# Altium schematic symbol library VESC_MotorController.SCHLIB: 140 symbols (part 1 of 2)
Pins are listed as number, name and electrical type; pins without a type are passive.

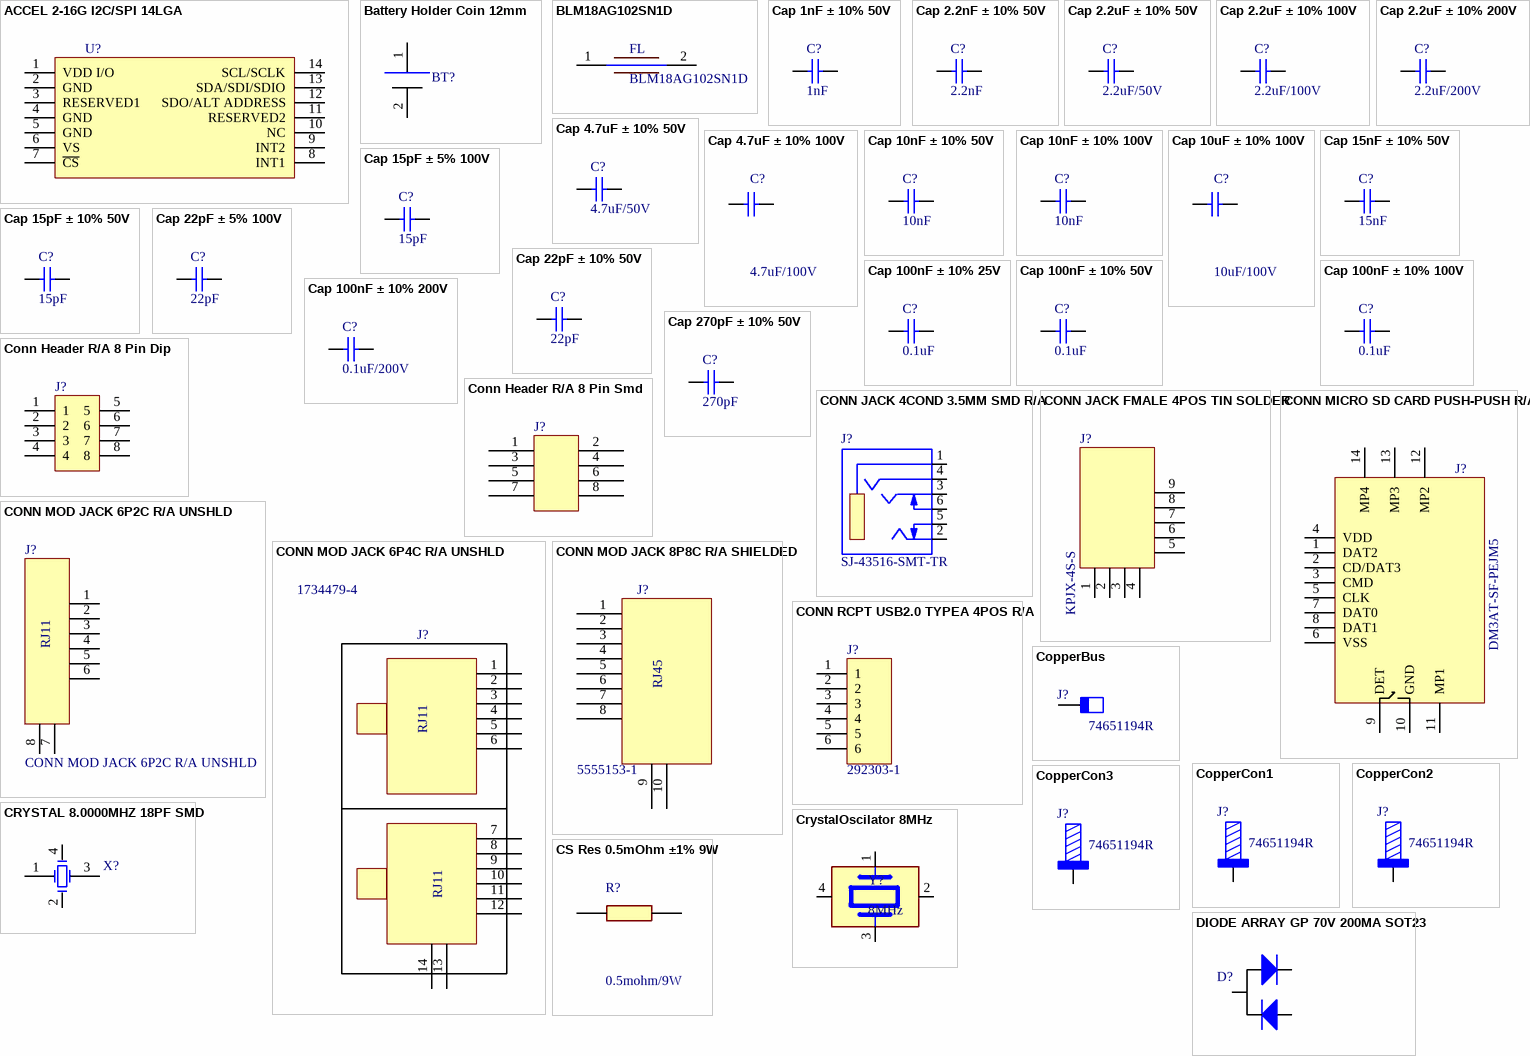
[diagram p0: symbols ACCEL 2-16G I2C/SPI 14LGA to DIODE ARRAY GP 70V 200MA SOT23]

## ACCEL 2-16G I2C/SPI 14LGA
designator U?, comment ADXL343BCCZ-RL7  (value not drawn)
Accelerometer X, Y, Z Axis ±2g, 4g, 8g, 16g 0.05Hz ~ 1.6kHz 14-LGA (3x5); Manufacturer: Analog Devices; Supplier: Mouser; Supplier part Number: 584-ADXL343BCCZ-R7; Value: ADXL343BCCZ-RL7; Unit Price: 4.4; Manufacturer part Number: ADXL343BCCZ-RL7
footprint LGA14R80P8X6_500X300X100N (ADXL343BCCZ-RL7,ACCEL 2-16G I2C/SPI 14LGA)
pins: 1 VDD I/O, 2 GND, 3 RESERVED1, 4 GND, 5 GND, 6 VS, 7 ~{CS}, 8 INT1, 9 INT2, 10 NC, 11 RESERVED2, 12 SDO/ALT ADDRESS, 13 SDA/SDI/SDIO, 14 SCL/SCLK

## Battery Holder Coin 12mm
designator BT?, comment S8411-45R  (value not drawn)
Coin Cell Battery Holders EZ BDWR, SMT COIN CELL HOLDER CR1220; Manufacturer: Harwin; Supplier: Mouser; Supplier part Number: 855-S8411-45R; Price: 1.66; Value: S8411-45R; Manufacturer part Number: S8411-45R
footprint HLDR_S8411-45R (S8411-45R,BATTERY HOLDER COIN 12MM SMD)
pins: 1 +, 2 -

## BLM18AG102SN1D
designator FL
Ferrite Beads 1000 OHM 25% Alternate Sizing Guide Below; Manufacturer: Murata; Manufacturer Part Number: BLM18AG102SN1D; Price: 0.1; Supplier Part Number: 81-BLM11A102S; Value: BLM18AG102SN1D; Supplier: Mouser
footprint BLM18EG121SH1D
pins: 1, 2

## Cap 1nF ± 10% 50V
designator C?, comment 1nF
Multilayer Ceramic Capacitors MLCC - SMD/SMT 50V 1000pF X7R 0603 10%; Manufacturer: Yageo; Manufacturer Part Number: CC0603KRX7R9BB102; Value: 1nF; Supplier: mouser; Supplier Part Number: 603-CC0603KRX7R9BB102; Price: 0.1
footprint C0603 (CAPACITOR SMD 0603)
pins: 1, 2

## Cap 2.2nF ± 10% 50V
designator C?, comment 2.2nF
Multilayer Ceramic Capacitors MLCC - SMD/SMT 50V 2200pF X7R 0603 10%; Manufacturer: Yageo; Manufacturer Part Number: CC0603KRX7R9BB222; Value: 2.2nF; Supplier: mouser; Supplier Part Number: 603-CC0603KRX7R9BB222; Price: 0.1
footprint C0603 (CAPACITOR SMD 0603)
pins: 1, 2

## Cap 2.2uF ± 10% 50V
designator C?, comment 2.2uF/50V
Multilayer Ceramic Capacitors MLCC - SMD/SMT 50 V 2.2uF X7R 0805 10%; Manufacturer: Yageo; Manufacturer Part Number: CC0805KKX7R9BB225; Value: 2.2uF/50V; Supplier: mouser; Supplier Part Number: 603-CC805KKX7R9BB225; Price: 0.36
footprint C0805
pins: 1, 2

## Cap 2.2uF ± 10% 100V
designator C?, comment 2.2uF/100V
Multilayer Ceramic Capacitors MLCC - SMD/SMT 100V 2.2uF X7R 1210 10%; Manufacturer: Yageo; Manufacturer Part Number: CC1210KKX7R0BB225; Value: 2.2uF/100V; Supplier: mouser; Supplier Part Number: 603-CC121KKX7R0BB225; Price: 1.33
footprint C1210
pins: 1, 2

## Cap 2.2uF ± 10% 200V
designator C?, comment 2.2uF/200V
Multilayer Ceramic Capacitors MLCC - SMD/SMT 2.2UF 200V 10% 2220; Manufacturer: Knowles Syfer; Manufacturer Part Number: 2220Y2000225KXTWS2; Value: 2.2uF/200V; Supplier: mouser; Supplier Part Number: 843-2220Y20225KXTWS2; Price: 14
footprint C2220
pins: 1, 2

## Cap 4.7uF ± 10% 50V
designator C?, comment 4.7uF/50V
Multilayer Ceramic Capacitors MLCC - SMD/SMT 50 V 4.7uF X7R 1206 10%; Manufacturer: Yageo; Manufacturer Part Number: CC1206KKX7R9BB475; Value: 4.7uF/50V; Supplier: mouser; Supplier Part Number: 603-CC206KKX7R9BB475; Price: 0.46
footprint C1206 (CAPACITOR SMD 1206)
pins: 1, 2

## Cap 4.7uF ± 10% 100V
designator C?, comment 4.7uF/100V
Multilayer Ceramic Capacitors MLCC - SMD/SMT 4.7 uF 100 VDC 10% 1210 X7S; Manufacturer: Murata Electronics; Manufacturer Part Number: GRM32DC72A475KE01L; Supplier Part Number: 81-GRM32DC72A475KE1L; Supplier: Mouser; Price: 0.978; Value: 4.7uF/100V
footprint C1210
pins: 1, 2

## Cap 10nF ± 10% 50V
designator C?, comment 10nF
Multilayer Ceramic Capacitors MLCC - SMD/SMT 50V 0.01uF X7R 0603 10%; Manufacturer: Yageo; Manufacturer Part Number: CC0603KRX7R9BB103; Value: 10nF; Supplier: mouser; Supplier Part Number: 603-CC0603KRX7R9BB103; Price: 0.1
footprint C0603 (CAPACITOR SMD 0603)
pins: 1, 2

## Cap 10nF ± 10% 100V
designator C?, comment 10nF
Multilayer Ceramic Capacitors MLCC - SMD/SMT 100V 0.01uF X7R 10% 0805; Manufacturer: Yageo; Manufacturer Part Number: CC0805KRX7R0BB103; Value: 10nF; Supplier: mouser; Supplier Part Number: 603-CC0805KRX7R0BB103; Price: 0.1
footprint C0805
pins: 1, 2

## Cap 10uF ± 10% 100V
designator C?, comment 10uF/100V
Multilayer Ceramic Capacitors MLCC - SMD/SMT 10 uF 100 VDC 10% 1210 X7S; Manufacturer: Murata Electronics; Manufacturer Part Number: GRM32EC72A106KE05L; Supplier Part Number: 81-GRM32EC72A106KE05; Supplier: Mouser; Price: 0.998; Value: 10uF/100V
footprint C1210
pins: 1, 2

## Cap 15nF ± 10% 50V
designator C?, comment 15nF
Multilayer Ceramic Capacitors MLCC - SMD/SMT 50V 0.015uF X7R 0603 10%; Manufacturer: Yageo; Manufacturer Part Number: CC0603KRX7R9BB153; Value: 15nF; Supplier: mouser; Supplier Part Number: 603-CC0603KRX7R9BB153; Price: 0.1
footprint C0603 (CAPACITOR SMD 0603)
pins: 1, 2

## Cap 15pF ± 5% 100V
designator C?, comment 15pF
Multilayer Ceramic Capacitors MLCC - SMD/SMT 100V 15pF C0G 0805 5%; Manufacturer: Yageo; Manufacturer Part Number: CC0805JRNPO0BN150; Value: 15pF; Supplier: mouser; Supplier Part Number: 603-CC0805JRNPO0BN150; Price: 0.1
footprint C0805
pins: 1, 2

## Cap 15pF ± 10% 50V
designator C?, comment 15pF
Multilayer Ceramic Capacitors MLCC - SMD/SMT 50 V 15 pF C0G 0603 10%; Manufacturer: Yageo; Manufacturer Part Number: CC0603KRNPO9BN150; Value: 15pF; Supplier: mouser; Supplier Part Number: 603-CC0603KRNPO9BN150; Price: 0.1
footprint C0603 (CAPACITOR SMD 0603)
pins: 1, 2

## Cap 22pF ± 5% 100V
designator C?, comment 22pF
Multilayer Ceramic Capacitors MLCC - SMD/SMT 100V 22pF C0G 0805 5%; Manufacturer: Yageo; Manufacturer Part Number: CC0805JRNPO0BN220; Value: 22pF; Supplier: mouser; Supplier Part Number: 603-CC0805JRNPO0BN220; Price: 0.1
footprint C0805
pins: 1, 2

## Cap 22pF ± 10% 50V
designator C?, comment 22pF
Multilayer Ceramic Capacitors MLCC - SMD/SMT 50 V 22 pF C0G 0603 10%; Manufacturer: Yageo; Manufacturer Part Number: CC0603KRNPO9BN220; Value: 22pF; Supplier: mouser; Supplier Part Number: 603-CC603KRNPO9BN220; Price: 0.1
footprint C0603 (CAPACITOR SMD 0603)
pins: 1, 2

## Cap 100nF ± 10% 25V
designator C?, comment 0.1uF
Multilayer Ceramic Capacitors MLCC - SMD/SMT 25 V 0.1uF X7R 0402 10%; Manufacturer: Yageo; Manufacturer Part Number: CC0402KRX7R8BB104; Value: 0.1uF; Supplier: mouser; Supplier Part Number: 603-CC402KRX7R8BB104; Price: 0.1
footprint C0402
pins: 1, 2

## Cap 100nF ± 10% 50V
designator C?, comment 0.1uF
Multilayer Ceramic Capacitors MLCC - SMD/SMT 50 V 0.1uF X7R 0603 10%; Manufacturer: Yageo; Manufacturer Part Number: CC0603KRX7R9BB104; Value: 0.1uF; Supplier: mouser; Supplier Part Number: 603-CC603KRX7R9BB104; Price: 0.1
footprint C0603 (CAPACITOR SMD 0603)
pins: 1, 2

## Cap 100nF ± 10% 100V
designator C?, comment 0.1uF
Multilayer Ceramic Capacitors MLCC - SMD/SMT 100V 0.1uF X7R 0805 10%; Manufacturer: Yageo; Manufacturer Part Number: CC0805KKX7R0BB104; Value: 0.1uF; Supplier: mouser; Supplier Part Number: 603-CC0805KKX7R0BB104; Price: 0.2
footprint C0805
pins: 1, 2

## Cap 100nF ± 10% 200V
designator C?, comment 0.1uF/200V
Multilayer Ceramic Capacitors MLCC - SMD/SMT 200V 0.1uF X7R 1206 10%; Manufacturer: Yageo; Manufacturer Part Number: CC1206KKX7RABB104; Value: 0.1uF/200V; Supplier: mouser; Supplier Part Number: 603-CC1206KKX7RABB104; Price: 0.3
footprint C1206 (CAPACITOR SMD 1206)
pins: 1, 2

## Cap 270pF ± 10% 50V
designator C?, comment 270pF
Multilayer Ceramic Capacitors MLCC - SMD/SMT 50 V 270pF X7R 0603 10%; Manufacturer: Yageo; Manufacturer Part Number: CC0603KRX7R9BB271; Value: 270pF; Supplier: mouser; Supplier Part Number: 603-CC603KRX7R9BB271; Price: 0.1
footprint C0603 (CAPACITOR SMD 0603)
pins: 1, 2

## Conn Header R/A 8 Pin Dip
designator J?, comment 43045-0822  (value not drawn)
Headers & Wire Housings 3MM 2R RA 8P SMT HDR AU W/METAL RET CLIP; Manufacturer: Molex; Price: 3.36; Supplier: Mouser; Supplier part Number: 538-43045-0822; Manufacturer part Number: 43045-0822; Value: 43045-0822
footprint MOLEX_430450822 (0430450822,CONN HEADER R/A 8POS 3MM)
pins: 1, 2, 3, 4, 5, 6, 7, 8

## Conn Header R/A 8 Pin Smd
designator J?, comment 43045-0811  (value not drawn)
Headers & Wire Housings 8 CKT R/A SMT HDR; Manufacturer: Molex; Price: 6.26; Supplier: Digikey; Supplier part Number: 538-43045-0811; Manufacturer part Number: 43045-0811; Value: 43045-0811
footprint MOLEX_0430450811 (0430450811,CONN HEADER SMD R/A 8POS 3MM)
pins: 1, 2, 3, 4, 5, 6, 7, 8

## CONN JACK 4COND 3.5MM SMD R/A
designator J?  Manufacturer part Number: SJ-43516-SMT-TR  (hidden comment: CONN JACK 4COND 3.5MM SMD R/A)
3.50mm (0.141", 1/8", Mini Plug) - Headphone Phone Jack Stereo (4 Conductor, TRRS) Connector Solder; Manufacturer: CUI Devices; Rating: 12VDC; Tolerance: NA; Value: SJ-43516-SMT-TR; Operating Temperature: -20°C ~ 85°C; Unit Price: $1.10000; Distributor: Digikey; Distributor part Number: CP-43516SJCT-ND; Package: Cut Tape (CT); Reference link: https://www.digikey.com/en/products/detail/cui-devices/SJ-43516-SMT-TR/669721; Type: Phone Jack,Surface Mount, Right Angle
footprint CUI_SJ-43516-SMT-TR (CONN JACK 4COND 3.5MM SMD R/A,SJ-43516-SMT-TR)
pins: 1 SLEEVE, 2 TIP, 3 RING1, 4 RING2, 5 TIP_SWITCH, 6 RING_SWITCH

## CONN JACK FMALE 4POS TIN SOLDER
designator J?  value KPJX-4S-S  (hidden comment: CONN JACK FMALE 4POS TIN SOLDER)
4 (Power) Position Circular Connector Jack, Female Sockets Solder; Manufacturer: Kycon, Inc.; Rating: 7.5A, 48VDC, UL94 V-0; Manufacturer Part Number: KPJX-4S-S; Package: Tray; Part Status: Active; Connector Type: Jack, Female Sockets; Mounting Type: Through Hole, Right Angle; Operating Temperature: -40°C ~ 75°C; ComponentLink1Description: Datasheet; ComponentLink1URL: https://www.digikey.com/en/products/detail/kycon-inc/KPJX-4S-S/9990088; Distributor: Digikey; Distributor Part Number: 2092-KPJX-4S-S-ND; Type: Through Hole, Right Angle; Assembly Option: *; Unit Price: $2.41000; Tolerance: *; Reference Link: https://www.digikey.com/en/products/detail/kycon-inc/KPJX-4S-S/9990088?s=N4IgTCBcDaINIAUBSANAtAFgMpqyAugL5A
footprint KYCON_KPJX-4S -S (KPJX-4S -S,CONN JACK FMALE 4POS TIN SOLDER)
pins: 1, 2, 3, 4, 5, 6, 7, 8, 9

## CONN MICRO SD CARD PUSH-PUSH R/A
designator J?  value DM3AT-SF-PEJM5  (hidden comment: CONN MICRO SD CARD PUSH-PUSH R/A)
Manufacturer: Hirose Electric Co Ltd; Rating: NA; Unit Price: $2.50000; Distributor: Digikey; Distributor part Number: HR1964CT-ND; Manufacturer part Number: DM3AT-SF-PEJM5; Reference link: https://www.digikey.com/en/products/detail/hirose-electric-co-ltd/DM3AT-SF-PEJM5/2533565; Tolerance: NA; Type: Connector and Ejector
footprint HIROSE_DM3AT-SF-PEJM5
pins: 1 DAT2, 2 CD/DAT3, 3 CMD, 4 VDD, 5 CLK, 6 VSS, 7 DAT0, 8 DAT1, 9 DET, 10 GND, 11 MP1, 12 MP2, 13 MP3, 14 MP4

## CONN MOD JACK 6P2C R/A UNSHLD
designator J?
Jack Modular Connector 6p2c (RJ11) 90° Angle (Right) Unshielded Cat3; Manufacturer: TE Connectivity AMP Connectors; Manufacturer Part Number: 5520250-1; Category: Modular Connectors - Jacks; Part Status: Active; Connector Type: Jack; Number of Positions/Contacts: 6p2c (RJ11); Mounting Type: Through Hole; Operating Temperature: -40°C ~ 85°C; Packaging: Tray; Distributor: Digikey; Distributor Part Number: A31404-ND; Reference Link: https://www.digikey.in/product-detail/en/te-connectivity-amp-connectors/5520250-1/A31404-ND/769548; Ratings: Cat3; Unit Price: 111.90000
footprint TE_5520250-1 (5520250-1,CONN MOD JACK 6P2C R/A UNSHLD)
pins: 1, 2, 3, 4, 5, 6, 7, 8
text: RJ11

## CONN MOD JACK 6P4C R/A UNSHLD
designator J?  value 1734479-4  (hidden comment: CONN MOD JACK 6P4C R/A UNSHLD)
Jack Modular Connector 6p4c (RJ11, RJ14) 90° Angle (Right) Unshielded Cat3; Manufacturer: TE Connectivity AMP Connectors; Tolerance: NA; Unit Price: $2.69000; Distributor: Digikey; Distributor part Number: A119279-ND; Manufacturer part Number: 1734479-4; Package: Tray; Rating: Cat3; Reference link: https://www.digikey.com/en/products/detail/te-connectivity-amp-connectors/1734479-4/4897898?s=N4IgTCBcDaIIwHYDMAWFCCcBaFIC6AvkA; Type: Jack, Through Hole
footprint TE_17344794
pins: 1, 2, 3, 4, 5, 6, 7, 8, 9, 10, 11, 12, 13, 14
text: RJ11

## CONN MOD JACK 8P8C R/A SHIELDED
designator J?  value 5555153-1  (hidden comment: CONN MOD JACK 8P8C R/A SHIELDED)
Jack Modular Connector 8p8c (RJ45, Ethernet) 90° Angle (Right) Shielded Cat3; Manufacturer: TE Connectivity AMP Connectors; Tolerance: NA; Unit Price: $2.11000; Distributor: Digikey; Distributor part Number: A31438-ND; Manufacturer part Number: 5555153-1; Package: Tray; Rating: Cat3; Reference link: https://www.digikey.com/en/products/detail/te-connectivity-amp-connectors/5555153-1/769582?s=N4IgTCBcDaIKwLgRjgZgLRJAXQL5A; Type: Modular Connectors - Jacks, Through hole; Operating Temperature: -40°C ~ 85°C
footprint TE_55551531
pins: 1, 2, 3, 4, 5, 6, 7, 8, 9, 10
text: RJ45

## CONN RCPT USB2.0 TYPEA 4POS R/A
designator J?  value 292303-1  (hidden comment: CONN RCPT USB2.0 TYPEA 4POS R/A)
Manufacturer: TE Connectivity AMP Connectors; Rating: 30VAC, 1A per Contact; Tolerance: NA; Unit Price: $1.68000; Distributor: Digikey; Distributor part Number: A31726-ND; Manufacturer part Number: 292303-1; Reference link: https://www.digikey.com/en/products/detail/te-connectivity-amp-connectors/292303-1/773786; Type: USB-A (USB TYPE A)
footprint TE_292303-1 (292303-1,USB-A (USB TYPE-A) USB 2.0 Receptacle Connector 4 Position Through Hole, Right Angle)
pins: 1, 2, 3, 4, 5, 6

## CopperBus
designator J?, comment 74651194R
WP-THRSH REDCUBE THR with external thread, M4 x 5mm, 85A; Manufacturer: Wurth Elektronik; Surface: Tin; ComponentLink1Description: Website Link; ComponentLink1URL: https://www.we-online.com/redexpert/article/74651194R?ad; ComponentLink2Description: Datasheet Link; ComponentLink2URL: https://www.we-online.com/redexpert/spec/74651194R?ad; Manufacturer Part Number: 74651194R; Category: REDCUBE THR; Match Code: WP-THRSH; Mount: Through Hole Reflow; Operating Temperature Max: 150°C; Operating Temperature Min: -55°C; Packaging: Tape and Reel; Length: 10mm; Width: 10mm; Height: 8.5mm; Material: Brass; Number of Pins: 9; Rated Current: 85A; Thread Length: 5mm; Thread Size: M4; Supplier: Mouser; Supplier Part Number: 710-74651195R; Price: 3.5; Value: 74651194R
footprint COPPER_BUS
pins: 1

## CopperCon1
designator J?, comment 74651194R
WP-THRSH REDCUBE THR with external thread, M4 x 5mm, 85A; Manufacturer: Wurth Elektronik; Surface: Tin; ComponentLink1Description: Website Link; ComponentLink1URL: https://www.we-online.com/redexpert/article/74651194R?ad; ComponentLink2Description: Datasheet Link; ComponentLink2URL: https://www.we-online.com/redexpert/spec/74651194R?ad; Manufacturer Part Number: 74651194R; Category: REDCUBE THR; Match Code: WP-THRSH; Mount: Through Hole Reflow; Operating Temperature Max: 150°C; Operating Temperature Min: -55°C; Packaging: Tape and Reel; Length: 10mm; Width: 10mm; Height: 8.5mm; Material: Brass; Number of Pins: 9; Rated Current: 85A; Thread Length: 5mm; Thread Size: M4; Supplier: Mouser; Supplier Part Number: 710-74651195R; Price: 3.5; Value: 74651194R
footprint COPPER_CON1
pins: 1

## CopperCon2
designator J?, comment 74651194R
WP-THRSH REDCUBE THR with external thread, M4 x 5mm, 85A; Manufacturer: Wurth Elektronik; Surface: Tin; ComponentLink1Description: Website Link; ComponentLink1URL: https://www.we-online.com/redexpert/article/74651194R?ad; ComponentLink2Description: Datasheet Link; ComponentLink2URL: https://www.we-online.com/redexpert/spec/74651194R?ad; Manufacturer Part Number: 74651194R; Category: REDCUBE THR; Match Code: WP-THRSH; Mount: Through Hole Reflow; Operating Temperature Max: 150°C; Operating Temperature Min: -55°C; Packaging: Tape and Reel; Length: 10mm; Width: 10mm; Height: 8.5mm; Material: Brass; Number of Pins: 9; Rated Current: 85A; Thread Length: 5mm; Thread Size: M4; Supplier: Mouser; Supplier Part Number: 710-74651195R; Price: 3.5; Value: 74651194R
footprint COPPER_CON2
pins: 1

## CopperCon3
designator J?, comment 74651194R
WP-THRSH REDCUBE THR with external thread, M4 x 5mm, 85A; Manufacturer: Wurth Elektronik; Surface: Tin; ComponentLink1Description: Website Link; ComponentLink1URL: https://www.we-online.com/redexpert/article/74651194R?ad; ComponentLink2Description: Datasheet Link; ComponentLink2URL: https://www.we-online.com/redexpert/spec/74651194R?ad; Manufacturer Part Number: 74651194R; Category: REDCUBE THR; Match Code: WP-THRSH; Mount: Through Hole Reflow; Operating Temperature Max: 150°C; Operating Temperature Min: -55°C; Packaging: Tape and Reel; Length: 10mm; Width: 10mm; Height: 8.5mm; Material: Brass; Number of Pins: 9; Rated Current: 85A; Thread Length: 5mm; Thread Size: M4; Supplier: Mouser; Supplier Part Number: 710-74651195R; Price: 3.5; Value: 74651194R
footprint COPPER_CON3
pins: 1

## CRYSTAL 8.0000MHZ 18PF SMD
designator X?, comment 8MHz  (value not drawn)
CRYSTAL 8.0000MHZ 18PF SMD; Manufacturer: Abracon LLC; Manufacturer part Number: ABMM2-8.000MHZ-D1-T; Rating: 72 Ohms; Assembly Option: DNP; Tolerance: ±20ppm; Distributor: Digikey; Package: HC-49/US; Operating Temperature: -40°C ~ 85°C; Type: Crystal; Distributor part Number: 535-13477-2-ND; Reference link: https://www.digikey.com/product-detail/en/abracon-llc/ABMM2-8.000MHZ-D1-T/535-13477-2-ND/5980073; Value: 8MHz
footprint XTAL600X360X120-4N (ABMM2-8.000MHZ-D1-T)
pins: 1 OSC1, 2, 3 OSC2, 4
2 alternate drawings of the same symbol

## CrystalOscilator 8MHz
designator Y?, comment 8MHz
8 MHz A±30ppm Crystals Crystal Ceramic SEAM3225 T&R 3K; Manufacturer: Diodes Incorporated; Manufacturer Part Number: FL0800026Q; Price: 0.38; Value: 8MHz; Supplier: Mouser; Supplier Part Number: 621-FL0800026Q
footprint XTAL_FL0800026Q
pins: 1, 2 GND (power), 3 2, 4 GND (power)

## CS Res 0.5mOhm ±1% 9W
designator R?, comment 0.5mohm/9W
Current Sense Resistors - SMD 0.5mOHMS 9W 1% AEC-Q200; Manufacturer: Bourns; Manufacturer Part Number: CSS2H-3920R-L500FE; Supplier Part Number: 652-CSS2H3920RL500FE; Supplier: Mouser; Price: 2; Value: 0.5mohm/9W
footprint RESC10052X137N
pins: 1, 2

## DIODE ARRAY GP 70V 200MA SOT23
designator D?, comment BAV99 RFG  (value not drawn)
Diode Array 1 Pair Series Connection Standard 70V 200mA Surface Mount TO-236-3, SC-59, SOT-23-3; Manufacturer: Taiwan Semiconductor Corporation; Manufacturer part Number: BAV99 RFG; Supplier: Digi-key; Supplier part Number: BAV99RFGTR-ND; Price: 2.46926; Value: BAV99 RFG
footprint SOT95P240X130-3N (Footprint not found)
pins: 1 A, 2 K, 3 AK

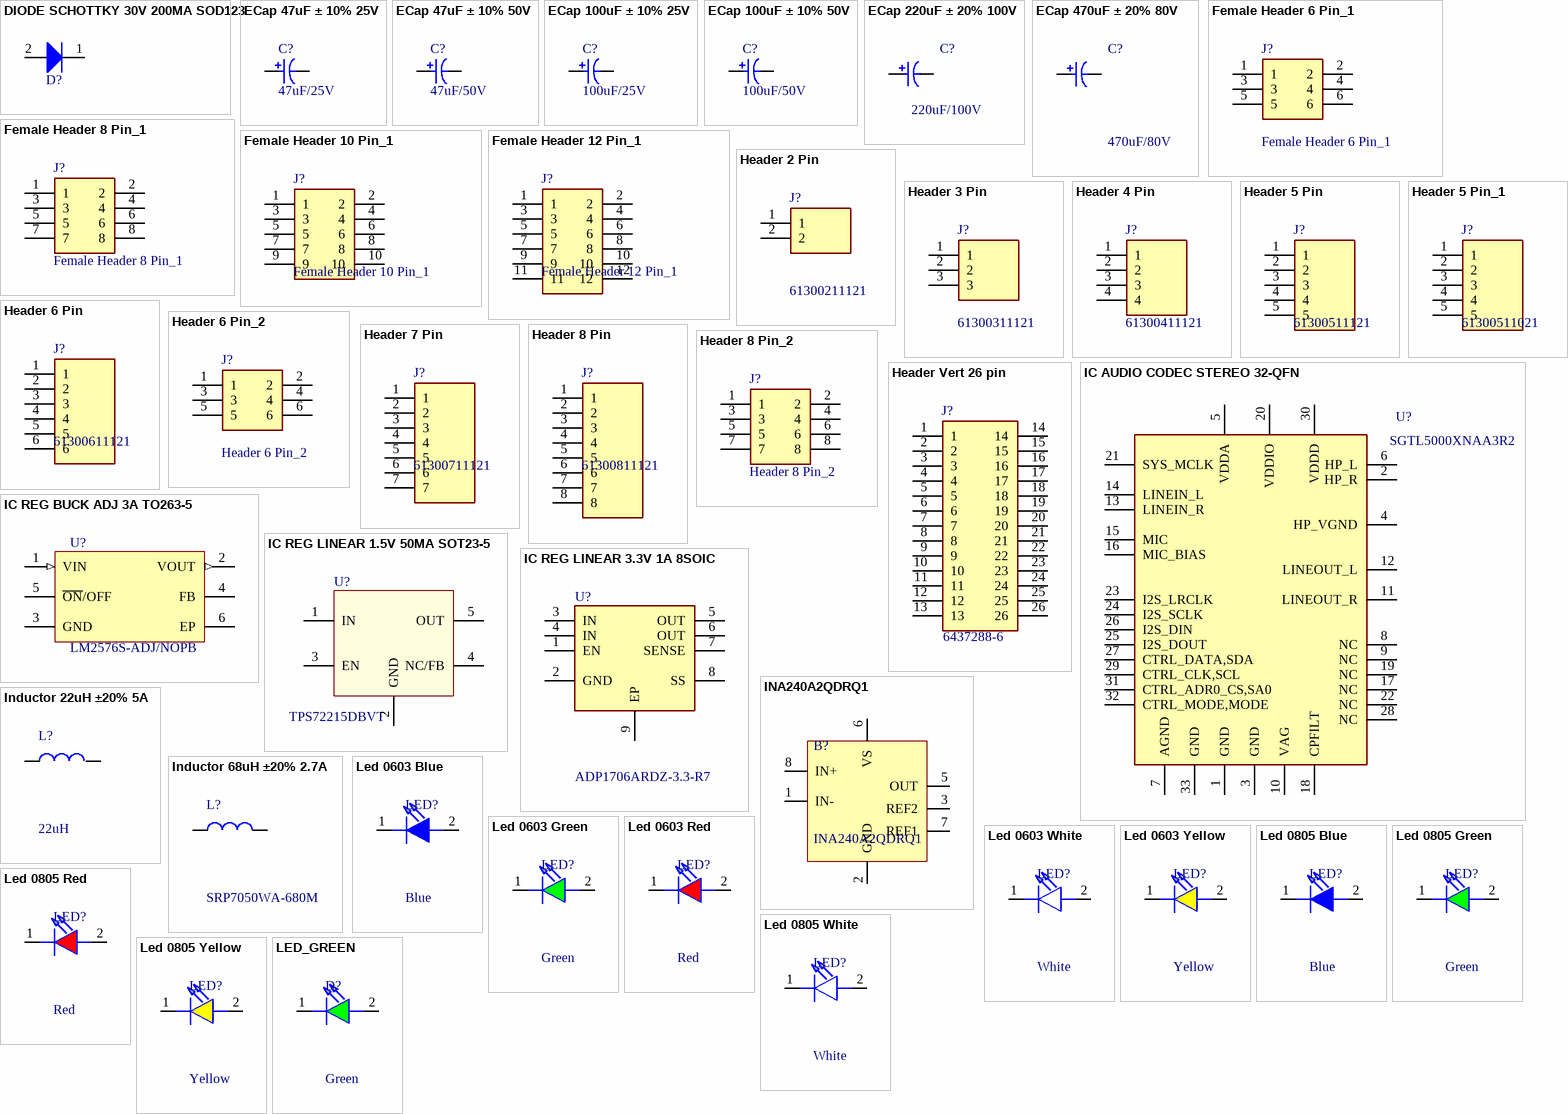
[diagram p1: symbols DIODE SCHOTTKY 30V 200MA SOD123 to LED_GREEN]

## DIODE SCHOTTKY 30V 200MA SOD123
designator D?  (value not drawn)
Manufacturer: Diodes Incorporated; Manufacturer part Number: BAT43W-7-F; Value: 30 V 200mA (DC); Type: Schottky Diode; Rating: 1 V @ 200 mA; Tolerance: NA; Operating Temperature: -55°C ~ 125°C; Package: SOD-123; Reference link: https://www.digikey.com/en/products/detail/diodes-incorporated/BAT43W-7-F/749953; Distributor: Digikey; Distributor part Number: BAT43W-FDICT-ND; Unit Price: $0.50000
footprint SOD3715X140N_2A (BAT43W-7-F,DIODE SCHOTTKY 30V 200MA SOD123)
pins: 1 K, 2 A

## ECap 47uF ± 10% 25V
designator C?, comment 47uF/25V
Aluminium Electrolytic Capacitors - Radial Leaded 47uF 25V; Manufacturer: Panasonic; Manufacturer Part Number: ECA-1EM470; Value: 47uF/25V; Supplier: Mouser; Supplier Part Number: 667-ECA-1EM470; Price: 0.21
footprint CAPPRD200W55D500H1200
pins: 1, 2

## ECap 47uF ± 10% 50V
designator C?, comment 47uF/50V
Aluminium Electrolytic Capacitors - Radial Leaded 47uF 50V; Manufacturer: Panasonic; Manufacturer Part Number: ECA-1HM470; Value: 47uF/50V; Supplier: Mouser; Supplier Part Number: 667-ECA-1HM470; Price: 0.27
footprint CAPPRD250W55D630H1220
pins: 1, 2

## ECap 100uF ± 10% 25V
designator C?, comment 100uF/25V
Aluminium Electrolytic Capacitors - Radial Leaded 100uF 25V; Manufacturer: Panasonic; Manufacturer Part Number: ECA-1EM101; Value: 100uF/25V; Supplier: Mouser; Supplier Part Number: 667-ECA-1EM101; Price: 0.29
footprint CAPPRD250W55D630H1220
pins: 1, 2

## ECap 100uF ± 10% 50V
designator C?, comment 100uF/50V
Aluminium Electrolytic Capacitors - Radial Leaded 100uF 50V; Manufacturer: Panasonic; Manufacturer Part Number: ECA-1HM101; Value: 100uF/50V; Supplier: mouser; Supplier Part Number: 667-ECA-1HM101; Price: 0.36
footprint CAPPRD350W65D825H1250
pins: 1, 2

## ECap 220uF ± 20% 100V
designator C?, comment 220uF/100V
Aluminium Electrolytic Capacitors - Radial Leaded 220uF 100V; Manufacturer: Panasonic; Manufacturer Part Number: ECA-2AM221; Supplier Part Number: 667-ECA-2AM221; Supplier: Mouser; Price: 0.95; Value: 220uF/100V
footprint CAPPRD500W65D1250H2200
pins: 1, 2

## ECap 470uF ± 20% 80V
designator C?, comment 470uF/80V
Aluminum Electrolytic Capacitors - Radial Leaded 80VDC 470uF 2200mA Polar; Manufacturer: Panasonic; Manufacturer Part Number: EEU-FS1K471L; Supplier Part Number: 667-EEU-FS1K471L; Supplier: Mouser; Value: 470uF/80V; Price: 1.78
footprint CAPPRD500W80D1250H3200
pins: 1, 2

## Female Header 6 Pin_1
designator J?
Headers & Wire Housings WERI Header 2,54 mm SMT; Manufacturer: Wurth Elektronik; Manufacturer Part Number: 61030621821; Value: 61030621821; Supplier Part Number: 710-61030621821; Supplier: Mouser; Price: 1.8
footprint 61030621821
pins: 1, 2, 3, 4, 5, 6

## Female Header 8 Pin_1
designator J?
Headers & Wire Housings WR-PHD 250VAC 3A Gry 2Row 8Pos Strgt; Manufacturer: Wurth Elektronik; Manufacturer Part Number: 61030821821; Value: 61030821821; Supplier Part Number: 710-61030821821; Supplier: Mouser; Price: 1.8
footprint 61030821821
pins: 1, 2, 3, 4, 5, 6, 7, 8

## Female Header 10 Pin_1
designator J?
Headers & Wire Housings WR-PHD 250VAC 3A Gry 2Row 10Pos Strgt; Manufacturer: Wurth Elektronik; Manufacturer Part Number: 61031021821; Value: 61031021821; Supplier Part Number: 710-61031021821; Supplier: Mouser; Price: 2
footprint 61031021821
pins: 1, 2, 3, 4, 5, 6, 7, 8, 9, 10

## Female Header 12 Pin_1
designator J?
Headers & Wire Housings WR-PHD 250VAC 3A Gry 2Row 12Pos Strgt; Manufacturer: Wurth Elektronik; Manufacturer Part Number: 61031221821; Value: 61031221821; Supplier Part Number: 710-61031221821; Supplier: Mouser; Price: 3
footprint 61031221821
pins: 1, 2, 3, 4, 5, 6, 7, 8, 9, 10, 11, 12

## Header 2 Pin
designator J?, comment 61300211121
Headers & Wire Housings WR-PHD 2.54mm 2Pin T HT Header; Manufacturer: Wurth Electronic; Supplier Part Number: 710-61300211121; Supplier: Mouser; Manufacturer Part Number: 61300211121; Price: 0.13; Value: 61300211121
footprint 61300211121
pins: 1, 2

## Header 3 Pin
designator J?, comment 61300311121
Headers & Wire Housings WR-PHD 2.54mm Hdr 3P Single Str Gold; Manufacturer: Wurth Electronic; Supplier Part Number: 710-61300311121; Supplier: Mouser; Manufacturer Part Number: 61300311121; Price: 0.13; Value: 61300311121
footprint 61300311121
pins: 1, 2, 3

## Header 4 Pin
designator J?, comment 61300411121
Headers & Wire Housings WR-PHD 2.54mm Hdr 4P Single Str Gold; Manufacturer: Wurth Electronic; Supplier Part Number: 710-61300411121; Supplier: Mouser; Manufacturer Part Number: 61300411121; Price: 0.19; Value: 61300411121
footprint 61300411121
pins: 1, 2, 3, 4

## Header 5 Pin
designator J?, comment 61300511121
Headers & Wire Housings WR-PHD 2.54mm Hdr 5P Single Str Gold; Manufacturer: Wurth Electronic; Supplier Part Number: 710-61300511121; Supplier: Mouser; Manufacturer Part Number: 61300511121; Price: 0.26; Value: 61300511121
footprint 61300511121
pins: 1, 2, 3, 4, 5

## Header 5 Pin_1
designator J?, comment 61300511021
Headers & Wire Housings WR-PHD 2.54mm Hdr 5P Single RA Gold; Manufacturer: Wurth Electronic; Supplier Part Number: 710-61300511021; Supplier: Mouser; Manufacturer Part Number: 61300511021; Price: 0.44; Value: 61300511021
footprint 61300511021 (Pin Header, pitch 2.54 mm, THT, Vertical, single row, 5p)
pins: 1, 2, 3, 4, 5

## Header 6 Pin
designator J?, comment 61300611121
Headers & Wire Housings WR-PHD 2.54mm Hdr 5P Single Str Gold; Manufacturer: Wurth Electronic; Supplier Part Number: 710-61300611121; Supplier: Mouser; Manufacturer Part Number: 61300611121; Price: 0.35; Value: 61300611121
footprint 61300611121
pins: 1, 2, 3, 4, 5, 6

## Header 6 Pin_2
designator J?
WR-PHD 2.54mm  Dual Pin Header THT 06p Wurth Elektronik WR-PHD Series, Series Number 6130, 2.54mm Pitch 6 Way 2 Row Straight PCB Header, Solder Termination; Manufacturer Part Number: 61300621121; Value: 61300621121; Supplier Part Number: 710-61300621121; Supplier: Mouser; Manufacturer: Wurth Elektronik; Price: 0.57
footprint 61300621121
pins: 1, 2, 3, 4, 5, 6

## Header 7 Pin
designator J?, comment 61300711121
Headers & Wire Housings WR-PHD 2.54mm Hdr 7P Single Str Gold; Manufacturer: Wurth Electronic; Supplier Part Number: 710-61300711121; Supplier: Mouser; Manufacturer Part Number: 61300711121; Price: 0.4; Value: 61300711121
footprint 61300711121
pins: 1, 2, 3, 4, 5, 6, 7

## Header 8 Pin
designator J?, comment 61300811121
Headers & Wire Housings WR-PHD 2.54mm Hdr 8P Single Str Gold; Manufacturer: Wurth Electronic; Supplier Part Number: 710-61300811121; Supplier: Mouser; Manufacturer Part Number: 61300811121; Price: 0.4; Value: 61300811121
footprint 61300811121
pins: 1, 2, 3, 4, 5, 6, 7, 8

## Header 8 Pin_2
designator J?
Headers & Wire Housings WR-PHD 2.54mm Hdr 8P Dual Str Gold; Manufacturer: Wurth Elektronik; Manufacturer Part Number: 61300821121; Value: 61300821121; Supplier Part Number: 710-61300621121; Supplier: Mouser; Price: 0.7
footprint 61300821121
pins: 1, 2, 3, 4, 5, 6, 7, 8

## Header Vert 26 pin
designator J?, comment 6437288-6
Header vert 26 way 4 row Tab Superseal; Manufacturer: TE Connectivity; Supplier Part Number: 571-6437288-6; Supplier: Mouser; Manufacturer Part Number: 6437288-6; Value: 6437288-6; Price: 2
footprint 64372886
pins: 1, 2, 3, 4, 5, 6, 7, 8, 9, 10, 11, 12, 13, 14, 15, 16, 17, 18, 19, 20, 21, 22, 23, 24, 25, 26

## IC AUDIO CODEC STEREO 32-QFN
designator U?  value SGTL5000XNAA3R2  (hidden comment: IC AUDIO CODEC STEREO 32-QFN)
Stereo Audio Interface - I²C, Serial, SPI™ 32-QFN-EP (5x5); Manufacturer: NXP USA Inc.; Tolerance: NA; Rating: 1.1V ~ 2V, 1.62V ~ 3.6V; Manufacturer part Number: SGTL5000XNAA3R2; Operating Temperature: -40°C ~ 85°C; Distributor: Digikey; Distributor part Number: SGTL5000XNAA3R2CT-ND; Reference link: https://www.digikey.com/en/products/detail/nxp-usa-inc/SGTL5000XNAA3R2/2186898; Package: 32-VFQFN Exposed Pad; Type: IC; Unit Price: $4.19000
footprint QFN50P500X500X100-33N (SGTL5000XNAA3R2,IC AUDIO CODEC STEREO 32-QFN)
pins: 1 GND, 2 HP_R, 3 GND, 4 HP_VGND, 5 VDDA, 6 HP_L, 7 AGND, 8 NC, 9 NC, 10 VAG, 11 LINEOUT_R, 12 LINEOUT_L, 13 LINEIN_R, 14 LINEIN_L, 15 MIC, 16 MIC_BIAS, 17 NC, 18 CPFILT, 19 NC, 20 VDDIO, 21 SYS_MCLK, 22 NC, 23 I2S_LRCLK, 24 I2S_SCLK, 25 I2S_DOUT, 26 I2S_DIN, 27 CTRL_DATA,SDA, 28 NC, 29 CTRL_CLK,SCL, 30 VDDD, 31 CTRL_ADR0_CS,SA0, 32 CTRL_MODE,MODE, 33 GND

## IC REG BUCK ADJ 3A TO263-5
designator U?  value LM2576S-ADJ/NOPB  (hidden comment: IC REG BUCK ADJ 3A TO263-5)
Buck Switching Regulator IC Positive Adjustable 1.23V 1 Output 3A TO-263-6, D²Pak (5 Leads + Tab), TO-263BA; Manufacturer: Texas Instruments; Tolerance: NA; Manufacturer part Number: LM2576S-ADJ/NOPB; Distributor: Digikey; Distributor part Number: LM2576S-ADJ/NOPB-ND; Package: TO-263-6, D²Pak (5 Leads + Tab), TO-263BA; Rating: 1.23V 1 Output 3A; Type: IC; Operating Temperature: -40°C ~ 125°C (TJ); Unit Price: $4.79000; Reference link: https://www.digikey.com/en/products/detail/texas-instruments/LM2576S-ADJ-NOPB/363655
footprint TO-263-6_LM2576S (LM2576S-ADJ/NOPB,IC REG BUCK ADJ 3A TO263-5)
pins: 1 VIN (in), 2 VOUT (out), 3 GND, 4 FB, 5 ~{ON}/OFF, 6 EP

## IC REG LINEAR 1.5V 50MA SOT23-5
designator U?, comment TPS72215DBVT
IC REG LINEAR 1.5V 50MA SOT23-5; Manufacturer: Texas Instruments; Tolerance: NA; Rating: 0.1V@50mA; Distributor part Number: 296-12521-1-ND; Reference link: https://www.digikey.com/en/products/detail/texas-instruments/TPS72215DBVT/432081; Type: IC; Value: TPS72215DBVT; Manufacturer part Number: TPS72215DBVT; Distributor: Digikey; Package: SOT23-5; Operating Temperature: -40°C ~ 125°C; Unit Price: $1.53000
footprint SOT95P280X145-5N
pins: 1 IN (power), 2 GND (power), 3 EN (power), 4 NC/FB (power), 5 OUT (power)

## IC REG LINEAR 3.3V 1A 8SOIC
designator U?  Manufacturer part Number: ADP1706ARDZ-3.3-R7  (hidden comment: IC REG LINEAR 3.3V 1A 8SOIC)
Linear Voltage Regulator IC Positive Fixed 1 Output 1A 8-SOIC-EP; Manufacturer: Analog Devices Inc.; Tolerance: NA; Value: ADP1706ARDZ-3.3-R7; Rating: 3.3V 1A; Package: 8-SOIC (0.154", 3.90mm Width) Exposed Pad; Operating Temperature: -40°C ~ 125°C; Distributor: Digikey; Distributor part Number: ADP1706ARDZ-3.3-R7CT-ND; Reference link: https://www.digikey.com/en/products/detail/analog-devices-inc/ADP1706ARDZ-3-3-R7/1766873?s=N4IgTCBcDaIIIBEAKBGA7ABgGxwEoIC0BaAZgDoSjc0QBdAXyA; Type: IC; Unit Price: $3.15000
footprint SOIC127P600X170-9N (LMR16030SDDAR)
pins: 1 EN, 2 GND, 3 IN, 4 IN, 5 OUT, 6 OUT, 7 SENSE, 8 SS, 9 EP

## INA240A2QDRQ1
designator B?
Automotive, High/Low Side, Bi-Directional Zer-Drift Current Sense Amp w/ Enhanced PWM Rejection; Manufacturer: Texas Instruments; Supplier Part Number: 595-INA240A2QDRQ1; Supplier: Mouser; Manufacturer Part Number: INA240A2QDRQ1; Price: 3.8; Value: INA240A2QDRQ1
footprint SOIC127P600X175-8N
pins: 1 IN-, 2 GND, 3 REF2, 5 OUT, 6 VS, 7 REF1, 8 IN+

## Inductor 22uH ±20% 5A
designator L?, comment 22uH
Power Inductors - SMD Ind,7.9x7.3x5.2mm,22uH+/-20%,5A,shd; Manufacturer: Bourns; Manufacturer Part Number: SRP7050WA-220M; Supplier Part Number: 652-SRP7050WA-220M; Supplier: Mouser; Price: 1; Value: 22uH
footprint INDPM7973X540N
pins: 1, 2

## Inductor 68uH ±20% 2.7A
designator L?, comment SRP7050WA-680M
Power Inductors - SMD Ind,7.9x7.3x5.2mm,68uH+/-20%,2.7A,shd; Manufacturer: Bourns; Value: 68uH; Supplier Part Number: 652-SRP7050WA-680M; Supplier: Mouser; Manufacturer Part Number: SRP7050WA-680M; Price: 1
footprint INDPM7973X540N
pins: 1, 2

## Led 0603 Blue
designator LED?, comment Blue
Standard LEDs - SMD SMD 0603 3V 100mcd BLUE; Manufacturer: VCC; Manufacturer Part Number: LSM0603463V; Supplier Part Number: 593-LSM0603463V; Supplier: Mouser; Value: Blue; Price: 0.44
footprint LSM0603B
pins: 1 K, 2 A

## Led 0603 Green
designator LED?, comment Green
Standard LEDs - SMD SMD 0603 3V 1000mcd GREEN; Manufacturer: VCC; Manufacturer Part Number: LSM0603453V; Supplier Part Number: 593-LSM0603453V; Supplier: Mouser; Value: Green; Price: 0.44
footprint LSM0603G
pins: 1 K, 2 A

## Led 0603 Red
designator LED?, comment Red
Standard LEDs - SMD SMD 0603 2V 100mcd RED; Manufacturer: VCC; Manufacturer Part Number: LSM0603412V; Supplier Part Number: 593-LSM0603412V; Supplier: Mouser; Value: Red; Price: 0.39
footprint LSM0603R
pins: 1 K, 2 A

## Led 0603 White
designator LED?, comment White
Standard LEDs - SMD SMD 0603 3V 330mcd WHITE; Manufacturer: VCC; Manufacturer Part Number: LSM0603443V; Supplier Part Number: 593-LSM0603443V; Supplier: Mouser; Value: White; Price: 0.56
footprint LSM0603W
pins: 1 K, 2 A

## Led 0603 Yellow
designator LED?, comment Yellow
Standard LEDs - SMD SMD 0603 2V 150mcd YELLOW; Manufacturer: VCC; Manufacturer Part Number: LSM0603472V; Supplier Part Number: 593-LSM0603472V; Supplier: Mouser; Value: Yellow; Price: 0.29
footprint LSM0603Y
pins: 1 K, 2 A

## Led 0805 Blue
designator LED?, comment Blue
Standard LEDs - SMD 0805 3V 100mcd BLUE; Manufacturer: VCC; Manufacturer Part Number: LSM0805463V; Supplier Part Number: 593-LSM0805463V; Supplier: Mouser; Value: Blue; Price: 0.44
footprint LSM0805B
pins: 1 K, 2 A

## Led 0805 Green
designator LED?, comment Green
Standard LEDs - SMD 0805 2V 35mcd GREEN; Manufacturer: VCC; Manufacturer Part Number: LSM0805452V; Supplier Part Number: 593-LSM0805452V; Supplier: Mouser; Value: Green; Price: 0.4
footprint LSM0805G
pins: 1 K, 2 A

## Led 0805 Red
designator LED?, comment Red
Standard LEDs - SMD 0805 2V 100mcd RED; Manufacturer: VCC; Manufacturer Part Number: LSM0805412V; Supplier Part Number: 593-LSM0805412V; Supplier: Mouser; Value: Red; Price: 0.46
footprint LSM0805R
pins: 1 K, 2 A

## Led 0805 White
designator LED?, comment White
Standard LEDs - SMD 0805 3V 280mcd WHITE; Manufacturer: VCC; Manufacturer Part Number: LSM0805543V; Supplier Part Number: 593-LSM0805543V; Supplier: Mouser; Value: White; Price: 0.5
footprint LSM0805W
pins: 1 K, 2 A

## Led 0805 Yellow
designator LED?, comment Yellow
Standard LEDs - SMD 0805 2V 162mcd YELLOW; Manufacturer: VCC; Manufacturer Part Number: LSM0805472V; Supplier Part Number: 593-LSM0805472V; Supplier: Mouser; Value: Yellow; Price: 0.36
footprint LSM0805Y
pins: 1 K, 2 A

## LED_GREEN
designator D?, comment Green
R/A LED; Manufacturer: Stanley Electric; Manufacturer Part Number: VCDG1113F-4BY3C-TR; Supplier Part Number: 327-VCDG1113F4BY3CTR; Supplier: Mouser; Value: Green; Price: 0.5
footprint VCDG1113F4BY3CTR
pins: 1 K, 2 A

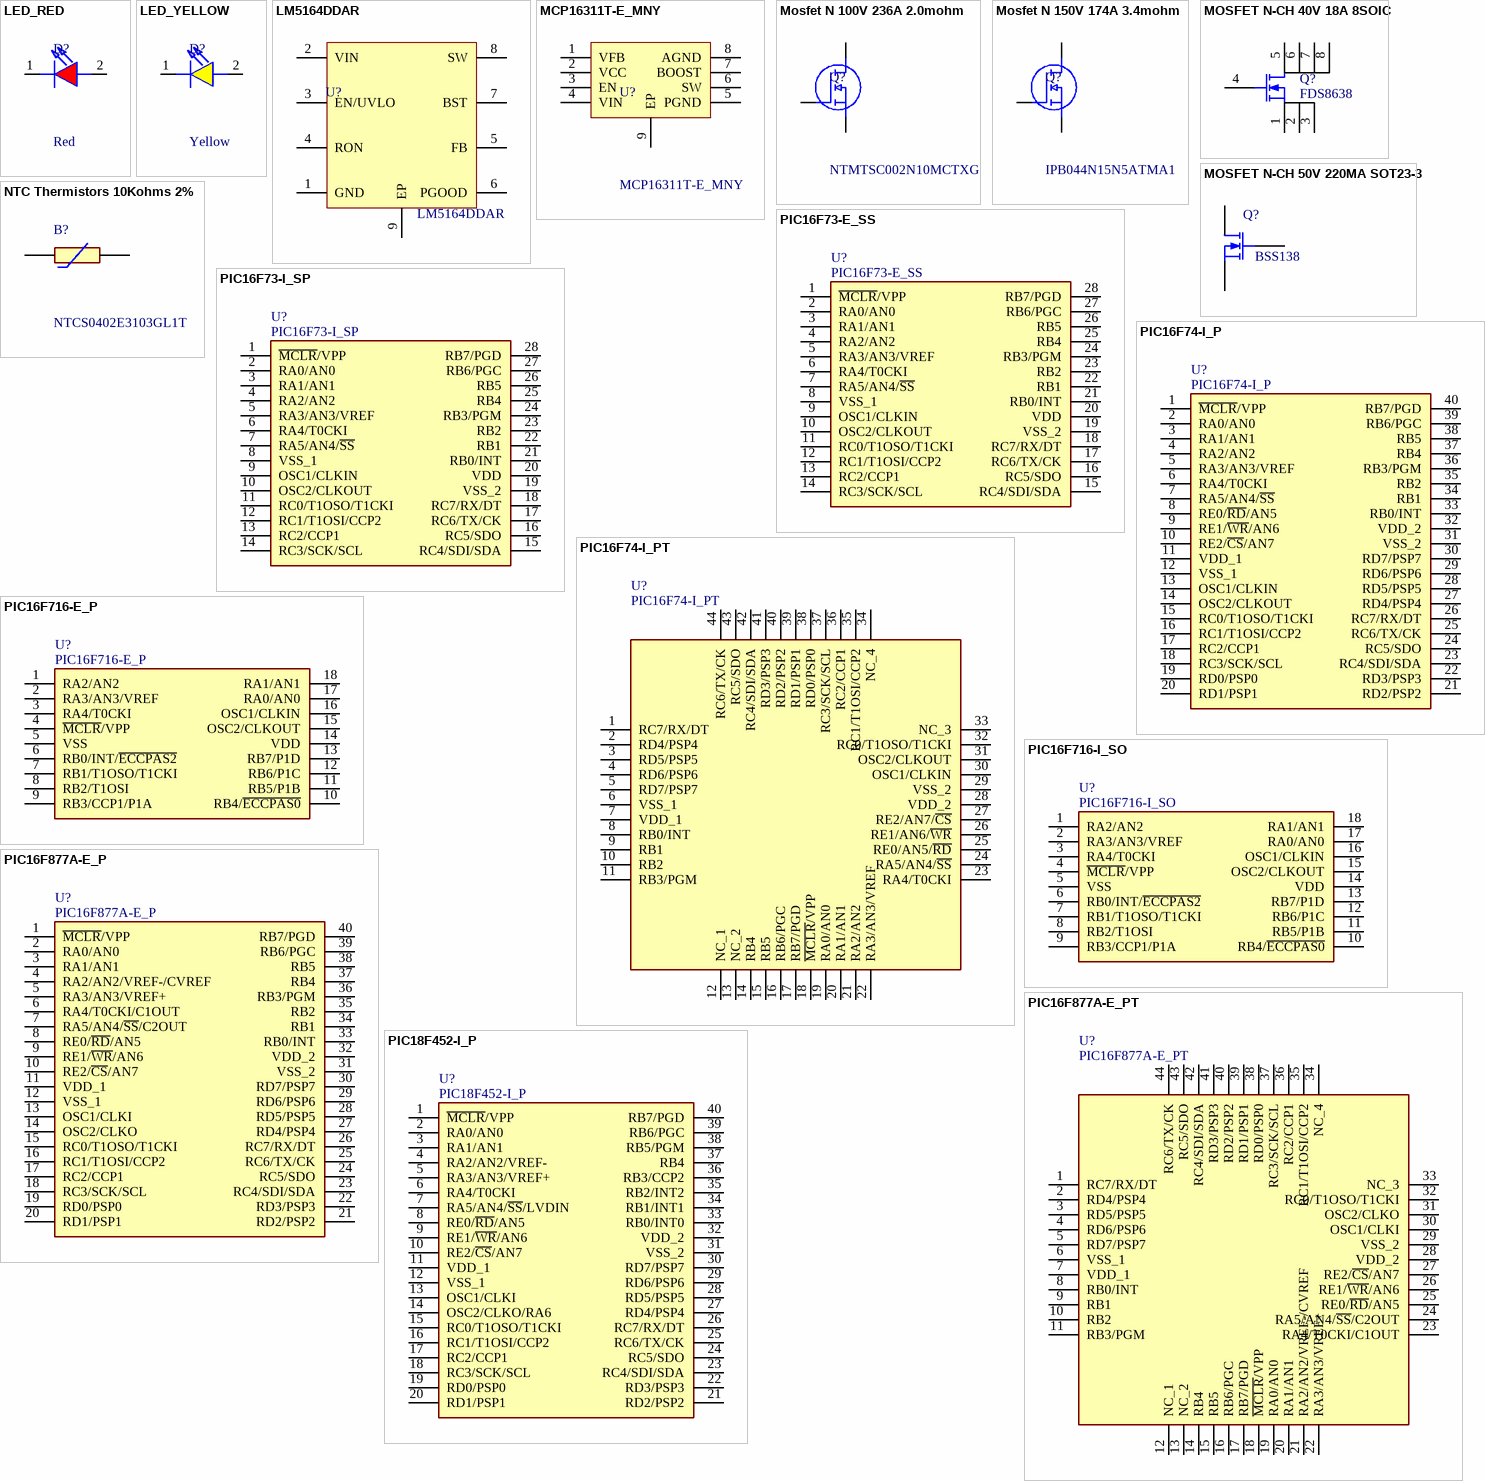
[diagram p2: symbols LED_RED to PIC18F452-I_P]

## LED_RED
designator D?, comment Red
R/A LED; Manufacturer: Stanley Electric; Manufacturer Part Number: FKR1113F-TR; Supplier Part Number: 327-FKR1113FTR; Supplier: Mouser; Value: Red; Price: 0.5
footprint VCDG1113F4BY3CTR
pins: 1 K, 2 A

## LED_YELLOW
designator D?, comment Yellow
R/A LED; Manufacturer: Stanley Electric; Manufacturer Part Number: FKY1113F-TR; Supplier Part Number: 327-FKY1113FTR; Supplier: Mouser; Value: Yellow; Price: 0.5
footprint VCDG1113F4BY3CTR
pins: 1 K, 2 A

## LM5164DDAR
designator U?
Texas Instruments 6-V to 100-V Input, 1-A Synchronous Buck DC-DC Converter With Ultra-Low IQ 8-SO PowerPAD -40 to 150; Value: 1.7mm; Supplier Part Number: 595-LM5164DDAR; Price: 3.5; Manufacturer: Texas Instruments; Manufacturer Part Number: LM5164DDAR; Supplier: Mouser
footprint SOIC-8(EPAD)
pins: 1 GND, 2 VIN, 3 EN/UVLO, 4 RON, 5 FB, 6 PGOOD, 7 BST, 8 SW, 9 EP

## MCP16311T-E_MNY
designator U?
Microchip, MCP16311T-E/MNY Step Down DC-DC Converter 1A Adjustable, 2  24 V 8-Pin, TDFN; Supplier Part Number: 579-MCP16311T-E/MNY; Price: 1.96; Manufacturer: Microchip; Manufacturer Part Number: MCP16311T-E/MNY; Value: MCP16311T-E/MNY; Supplier: Mouser
footprint MSOP-8
pins: 1 VFB, 2 VCC, 3 EN, 4 VIN, 5 PGND, 6 SW, 7 BOOST, 8 AGND, 9 EP

## Mosfet N 100V 236A 2.0mohm
designator Q?, comment NTMTSC002N10MCTXG
MOSFET Single N-Channel Power MOSFET 100V, 236A, 2.0mohm; Manufacturer: Onsemi; Supplier Part Number: 863-TMTSC002N10MCTXG; Supplier: Mouser; Manufacturer Part Number: NTMTSC002N10MCTXG; Price: 5.9; Value: NTMTSC002N10MCTXG
footprint NTMSC002N10MCTXG
pins: DRAIN, GATE, SOURCE

## Mosfet N 150V 174A 3.4mohm
designator Q?, comment IPB044N15N5ATMA1
INFINEON - IPB044N15N5ATMA1 - Power MOSFET, N Channel, 150 V, 174 A, 0.0034 ohm, TO-263 (D2PAK), Surface Mount; Supplier Part Number: 726-IPB044N15N5ATMA1; Supplier: Mouser; Manufacturer: Infineon; Manufacturer Part Number: IPB044N15N5ATMA1; Price: 8.5; Value: IPB044N15N5ATMA1
footprint IPB044N15N5ATMA1
pins: DRAIN, GATE, SOURCE

## MOSFET N-CH 40V 18A 8SOIC
designator Q?  value FDS8638  (hidden comment: MOSFET N-CH 40V 18A 8SOIC)
N-Channel 40 V 18A (Ta) 2.5W (Ta) Surface Mount 8-SOIC; Manufacturer: ON Semiconductor; Rating: 40 V 18A 2.5W; Tolerance: NA; Type: Transistors - FETs, MOSFETs - Single, N-Channel; Unit Price: $2.12000; Distributor: Digikey; Distributor part Number: FDS8638CT-ND; Manufacturer part Number: FDS8638; Package: 8-SOIC (0.154", 3.90mm Width); Reference link: https://www.digikey.com/en/products/detail/on-semiconductor/FDS8638/2051638?s=N4IgTCBcDaIGIBEDKAOAbAZhSAugXyA
footprint SOIC127P600X175-8N
pins: 1, 2, 3, 4, 5, 6, 7, 8

## MOSFET N-CH 50V 220MA SOT23-3
designator Q?  value BSS138  (hidden comment: MOSFET N-CH 50V 220MA SOT23-3)
N-Channel 50V 220mA (Ta) 360mW (Ta) Surface Mount SOT-23-3; Manufacturer: ON Semiconductor; Tolerance: NA; Type: N-Channel MOSFET; Unit Price: 20.89000; Distributor: Digikey; Distributor part Number: BSS138CT-ND; Manufacturer part Number: BSS138; Package: TO-236-3, SC-59, SOT-23-3; Rating: 50V 220mA; Reference link: https://www.digikey.in/product-detail/en/on-semiconductor/BSS138/BSS138CT-ND/244294
footprint SOT95P240X110-3N (BSS138)
pins: 1 G, 2 S, 3 D

## NTC Thermistors 10Kohms 2%
designator B?, comment NTCS0402E3103GL1T
NTC Thermistors 10Kohms 2% AEC-Q200; Manufacturer: Vishay; Supplier Part Number: 594-NTCS402E3103GL1T; Supplier: Mouser; Manufacturer Part Number: NTCS0402E3103GL1T; Price: 0.47; Value: NTCS0402E3103GL1T
footprint THRMC1005X65N
pins: 1, 2

## PIC16F73-E_SS
designator U?
Microchip PIC16F73-E/SS, 8bit PIC Microcontroller, 20MHz, 4096 B Flash, 28-Pin SSOP; Supplier Part Number: 579-PIC16F73-E/SS; Supplier: Mouser; Manufacturer: Microchip; Manufacturer Part Number: PIC16F73-E/SS; Value: PIC16F73-E/SS; Price: 5.19
footprint SOP65P784X198-28N
pins: 1 ~{MCLR}/VPP, 2 RA0/AN0, 3 RA1/AN1, 4 RA2/AN2, 5 RA3/AN3/VREF, 6 RA4/T0CKI, 7 RA5/AN4/~{SS}, 8 VSS_1, 9 OSC1/CLKIN, 10 OSC2/CLKOUT, 11 RC0/T1OSO/T1CKI, 12 RC1/T1OSI/CCP2, 13 RC2/CCP1, 14 RC3/SCK/SCL, 15 RC4/SDI/SDA, 16 RC5/SDO, 17 RC6/TX/CK, 18 RC7/RX/DT, 19 VSS_2, 20 VDD, 21 RB0/INT, 22 RB1, 23 RB2, 24 RB3/PGM, 25 RB4, 26 RB5, 27 RB6/PGC, 28 RB7/PGD

## PIC16F73-I_SP
designator U?
Microchip PIC16F73-E/SS, 8bit PIC Microcontroller, 20MHz, 4096 B Flash, 28-Pin SSOP; Manufacturer Part Number: PIC16F73-I/SP; Value: PIC16F73-I/SP; Supplier Part Number: 579-PIC16F73ISP; Supplier: Mouser; Manufacturer: Microchip; Price: 4.9
footprint DIP794W56P254L3467H406Q28N
pins: 1 ~{MCLR}/VPP, 2 RA0/AN0, 3 RA1/AN1, 4 RA2/AN2, 5 RA3/AN3/VREF, 6 RA4/T0CKI, 7 RA5/AN4/~{SS}, 8 VSS_1, 9 OSC1/CLKIN, 10 OSC2/CLKOUT, 11 RC0/T1OSO/T1CKI, 12 RC1/T1OSI/CCP2, 13 RC2/CCP1, 14 RC3/SCK/SCL, 15 RC4/SDI/SDA, 16 RC5/SDO, 17 RC6/TX/CK, 18 RC7/RX/DT, 19 VSS_2, 20 VDD, 21 RB0/INT, 22 RB1, 23 RB2, 24 RB3/PGM, 25 RB4, 26 RB5, 27 RB6/PGC, 28 RB7/PGD

## PIC16F74-I_P
designator U?
Microcontroller,PIC16F74-I/PT 20MHz PIC16F74-I/PT, 8 bit PIC Microcontroller 20MHz 4K x 14 words Flash, 192 B RAM, I2C 44-Pin TQFP; Manufacturer: Microchip; Supplier Part Number: 579-PIC16F74IP; Supplier: Mouser; Manufacturer Part Number: PIC16F74-I/P; Price: 5.97; Value: PIC16F74-I/P
footprint DIP1550W56P254L5219H483Q40N
pins: 1 ~{MCLR}/VPP, 2 RA0/AN0, 3 RA1/AN1, 4 RA2/AN2, 5 RA3/AN3/VREF, 6 RA4/T0CKI, 7 RA5/AN4/~{SS}, 8 RE0/~{RD}/AN5, 9 RE1/~{WR}/AN6, 10 RE2/~{CS}/AN7, 11 VDD_1, 12 VSS_1, 13 OSC1/CLKIN, 14 OSC2/CLKOUT, 15 RC0/T1OSO/T1CKI, 16 RC1/T1OSI/CCP2, 17 RC2/CCP1, 18 RC3/SCK/SCL, 19 RD0/PSP0, 20 RD1/PSP1, 21 RD2/PSP2, 22 RD3/PSP3, 23 RC4/SDI/SDA, 24 RC5/SDO, 25 RC6/TX/CK, 26 RC7/RX/DT, 27 RD4/PSP4, 28 RD5/PSP5, 29 RD6/PSP6, 30 RD7/PSP7, 31 VSS_2, 32 VDD_2, 33 RB0/INT, 34 RB1, 35 RB2, 36 RB3/PGM, 37 RB4, 38 RB5, 39 RB6/PGC, 40 RB7/PGD

## PIC16F74-I_PT
designator U?
Microcontroller,PIC16F74-I/PT 20MHz PIC16F74-I/PT, 8 bit PIC Microcontroller 20MHz 4K x 14 words Flash, 192 B RAM, I2C 44-Pin TQFP; Manufacturer: Microchip; Supplier Part Number: 579-PIC16F74-I/PT; Supplier: Mouser; Manufacturer Part Number: PIC16F74-I/PT; Price: 6.83; Value: PIC16F74-I/PT
footprint QFP80P1200X1200X120-44N
pins: 1 RC7/RX/DT, 2 RD4/PSP4, 3 RD5/PSP5, 4 RD6/PSP6, 5 RD7/PSP7, 6 VSS_1, 7 VDD_1, 8 RB0/INT, 9 RB1, 10 RB2, 11 RB3/PGM, 12 NC_1, 13 NC_2, 14 RB4, 15 RB5, 16 RB6/PGC, 17 RB7/PGD, 18 ~{MCLR}/VPP, 19 RA0/AN0, 20 RA1/AN1, 21 RA2/AN2, 22 RA3/AN3/VREF, 23 RA4/T0CKI, 24 RA5/AN4/~{SS}, 25 RE0/AN5/~{RD}, 26 RE1/AN6/~{WR}, 27 RE2/AN7/~{CS}, 28 VDD_2, 29 VSS_2, 30 OSC1/CLKIN, 31 OSC2/CLKOUT, 32 RC0/T1OSO/T1CKI, 33 NC_3, 34 NC_4, 35 RC1/T1OSI/CCP2, 36 RC2/CCP1, 37 RC3/SCK/SCL, 38 RD0/PSP0, 39 RD1/PSP1, 40 RD2/PSP2, 41 RD3/PSP3, 42 RC4/SDI/SDA, 43 RC5/SDO, 44 RC6/TX/CK

## PIC16F716-E_P
designator U?
8-bit Flash-based Microcontroller; Manufacturer: Microchip; Manufacturer Part Number: PIC16F716-E/P; Value: PIC16F716-E/P; Supplier Part Number: 579-PIC16F716-E/P; Supplier: Mouser; Price: 1.89
footprint DIP794W56P254L2286H533Q18N
pins: 1 RA2/AN2, 2 RA3/AN3/VREF, 3 RA4/T0CKI, 4 ~{MCLR}/VPP, 5 VSS, 6 RB0/INT/~{ECCPAS2}, 7 RB1/T1OSO/T1CKI, 8 RB2/T1OSI, 9 RB3/CCP1/P1A, 10 RB4/~{ECCPAS0}, 11 RB5/P1B, 12 RB6/P1C, 13 RB7/P1D, 14 VDD, 15 OSC2/CLKOUT, 16 OSC1/CLKIN, 17 RA0/AN0, 18 RA1/AN1

## PIC16F716-I_SO
designator U?
Micro 16b, 3.5 KB Flash, PIC16F716-I/SO; Manufacturer_Name: Microchip; Supplier Part Number: 579-PIC16F716-I/SO; Supplier: Mouser; Manufacturer_Part_Number: PIC16F716-I/SO; Price: 1.5; Value: PIC16F716-I/SO
footprint SOIC127P1030X265-18N
pins: 1 RA2/AN2, 2 RA3/AN3/VREF, 3 RA4/T0CKI, 4 ~{MCLR}/VPP, 5 VSS, 6 RB0/INT/~{ECCPAS2}, 7 RB1/T1OSO/T1CKI, 8 RB2/T1OSI, 9 RB3/CCP1/P1A, 10 RB4/~{ECCPAS0}, 11 RB5/P1B, 12 RB6/P1C, 13 RB7/P1D, 14 VDD, 15 OSC2/CLKOUT, 16 OSC1/CLKIN, 17 RA0/AN0, 18 RA1/AN1

## PIC16F877A-E_P
designator U?
8-bit Microcontrollers - MCU 14KB 368 RAM 33 I/O; Manufacturer: Microchip; Manufacturer Part Number: PIC16F877A-E/P; Value: PIC16F877A-E/P; Supplier Part Number: 579-PIC16F877A-E/P; Supplier: Mouser; Price: 7.75
footprint DIP1550W56P254L5219H483Q40N
pins: 1 ~{MCLR}/VPP, 2 RA0/AN0, 3 RA1/AN1, 4 RA2/AN2/VREF-/CVREF, 5 RA3/AN3/VREF+, 6 RA4/T0CKI/C1OUT, 7 RA5/AN4/~{SS}/C2OUT, 8 RE0/~{RD}/AN5, 9 RE1/~{WR}/AN6, 10 RE2/~{CS}/AN7, 11 VDD_1, 12 VSS_1, 13 OSC1/CLKI, 14 OSC2/CLKO, 15 RC0/T1OSO/T1CKI, 16 RC1/T1OSI/CCP2, 17 RC2/CCP1, 18 RC3/SCK/SCL, 19 RD0/PSP0, 20 RD1/PSP1, 21 RD2/PSP2, 22 RD3/PSP3, 23 RC4/SDI/SDA, 24 RC5/SDO, 25 RC6/TX/CK, 26 RC7/RX/DT, 27 RD4/PSP4, 28 RD5/PSP5, 29 RD6/PSP6, 30 RD7/PSP7, 31 VSS_2, 32 VDD_2, 33 RB0/INT, 34 RB1, 35 RB2, 36 RB3/PGM, 37 RB4, 38 RB5, 39 RB6/PGC, 40 RB7/PGD

## PIC16F877A-E_PT
designator U?
8-bit Microcontrollers - MCU 14KB 368 RAM 33 I/O; Manufacturer: Microchip; Manufacturer Part Number: PIC16F877A-E/PT; Value: PIC16F877A-E/PT; Supplier Part Number: 579-PIC16F877A-E/PT; Supplier: Mouser; Price: 8.5
footprint QFP80P1200X1200X120-44N
pins: 1 RC7/RX/DT, 2 RD4/PSP4, 3 RD5/PSP5, 4 RD6/PSP6, 5 RD7/PSP7, 6 VSS_1, 7 VDD_1, 8 RB0/INT, 9 RB1, 10 RB2, 11 RB3/PGM, 12 NC_1, 13 NC_2, 14 RB4, 15 RB5, 16 RB6/PGC, 17 RB7/PGD, 18 ~{MCLR}/VPP, 19 RA0/AN0, 20 RA1/AN1, 21 RA2/AN2/VREF-/CVREF, 22 RA3/AN3/VREF+, 23 RA4/T0CKI/C1OUT, 24 RA5/AN4/~{SS}/C2OUT, 25 RE0/~{RD}/AN5, 26 RE1/~{WR}/AN6, 27 RE2/~{CS}/AN7, 28 VDD_2, 29 VSS_2, 30 OSC1/CLKI, 31 OSC2/CLKO, 32 RC0/T1OSO/T1CKI, 33 NC_3, 34 NC_4, 35 RC1/T1OSI/CCP2, 36 RC2/CCP1, 37 RC3/SCK/SCL, 38 RD0/PSP0, 39 RD1/PSP1, 40 RD2/PSP2, 41 RD3/PSP3, 42 RC4/SDI/SDA, 43 RC5/SDO, 44 RC6/TX/CK

## PIC18F452-I_P
designator U?
Microcontroller,PIC18F452-I/P 40MHz Microchip PIC18F452-I/P, 8bit PIC Microcontroller, 40MHz, 32 kB Flash, 40-Pin PDIP; Supplier Part Number: 579-PIC18F452-I/P; Supplier: Mouser; Manufacturer: Microchip; Manufacturer Part Number: PIC18F452-I/P; Price: 8.6; Value: PIC18F452-I/P
footprint DIP1550W56P254L5219H483Q40N
pins: 1 ~{MCLR}/VPP, 2 RA0/AN0, 3 RA1/AN1, 4 RA2/AN2/VREF-, 5 RA3/AN3/VREF+, 6 RA4/T0CKI, 7 RA5/AN4/~{SS}/LVDIN, 8 RE0/~{RD}/AN5, 9 RE1/~{WR}/AN6, 10 RE2/~{CS}/AN7, 11 VDD_1 (power), 12 VSS_1, 13 OSC1/CLKI, 14 OSC2/CLKO/RA6, 15 RC0/T1OSO/T1CKI, 16 RC1/T1OSI/CCP2, 17 RC2/CCP1, 18 RC3/SCK/SCL, 19 RD0/PSP0, 20 RD1/PSP1, 21 RD2/PSP2, 22 RD3/PSP3, 23 RC4/SDI/SDA, 24 RC5/SDO, 25 RC6/TX/CK, 26 RC7/RX/DT, 27 RD4/PSP4, 28 RD5/PSP5, 29 RD6/PSP6, 30 RD7/PSP7, 31 VSS_2, 32 VDD_2 (power), 33 RB0/INT0, 34 RB1/INT1, 35 RB2/INT2, 36 RB3/CCP2, 37 RB4, 38 RB5/PGM, 39 RB6/PGC, 40 RB7/PGD

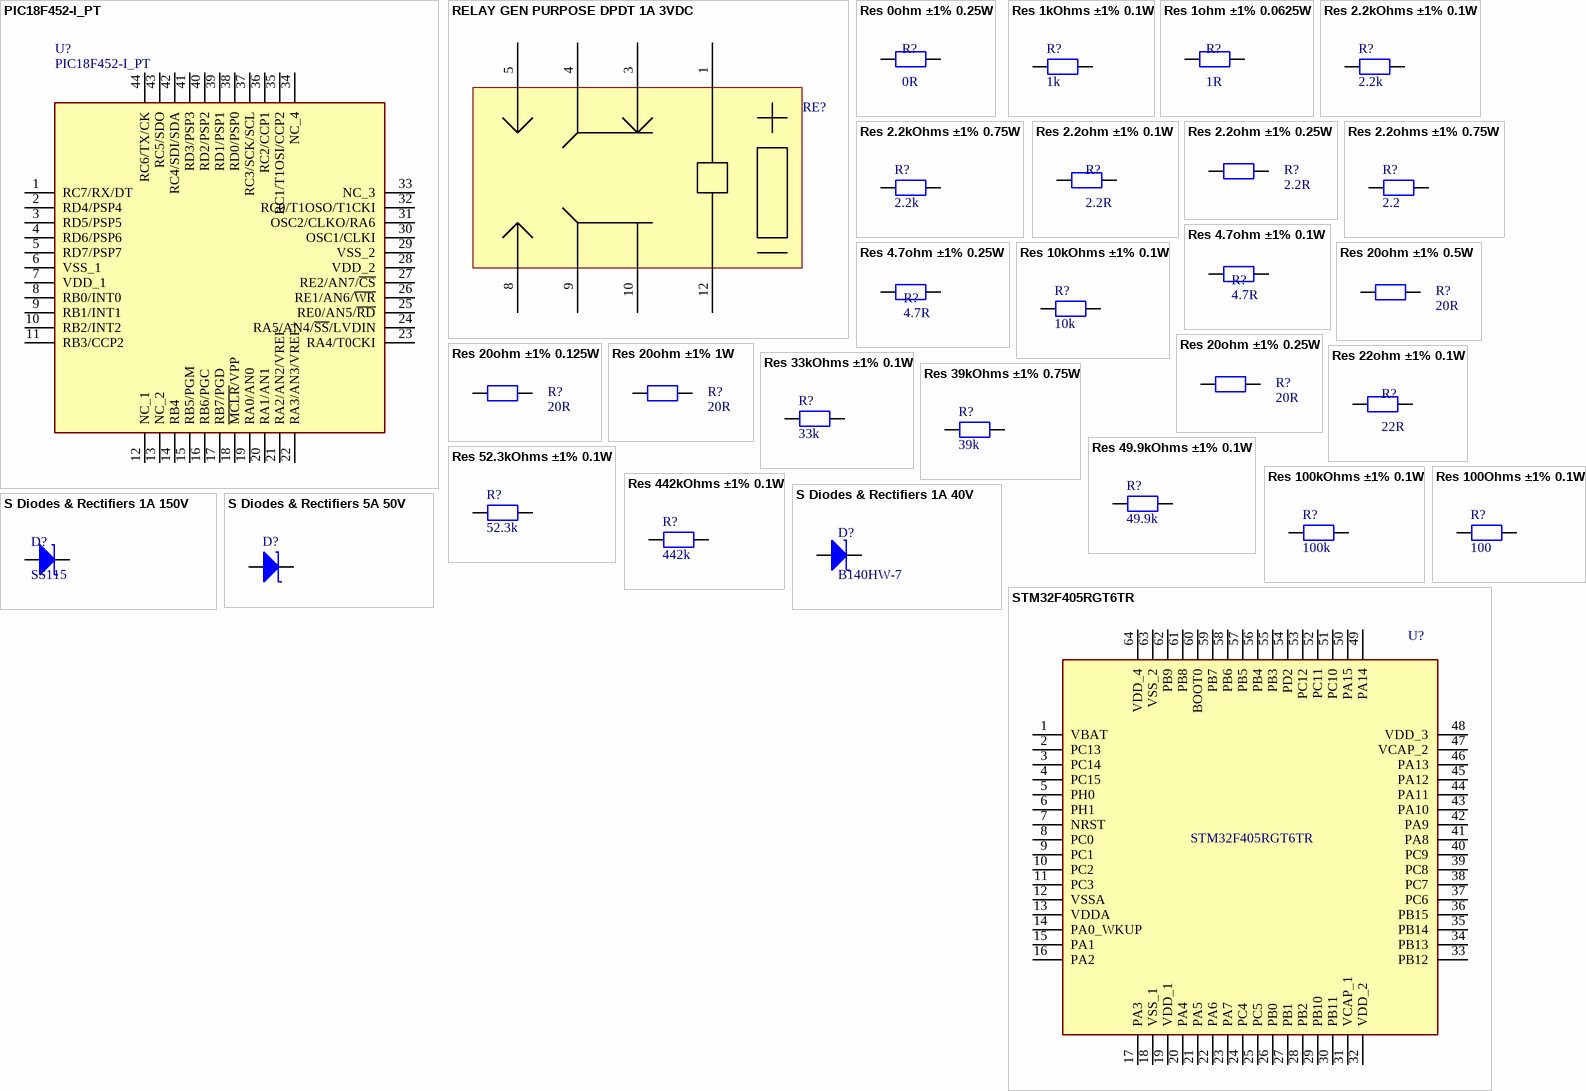
[diagram p3: symbols PIC18F452-I_PT to STM32F405RGT6TR]

## PIC18F452-I_PT
designator U?
PIC18F452-I/PT, 8 bit PIC Microcontroller 40MHz 32 kB Flash, 1536 B RAM, I2C 44-Pin TQFP; Manufacturer: Microchip; Supplier Part Number: 579-PIC18F452-I/PT; Supplier: Mouser; Manufacturer Part Number: PIC18F452-I/PT; Price: 9.35; Value: PIC18F452-I/PT
footprint QFP80P1200X1200X120-44N
pins: 1 RC7/RX/DT, 2 RD4/PSP4, 3 RD5/PSP5, 4 RD6/PSP6, 5 RD7/PSP7, 6 VSS_1, 7 VDD_1, 8 RB0/INT0, 9 RB1/INT1, 10 RB2/INT2, 11 RB3/CCP2, 12 NC_1, 13 NC_2, 14 RB4, 15 RB5/PGM, 16 RB6/PGC, 17 RB7/PGD, 18 ~{MCLR}/VPP, 19 RA0/AN0, 20 RA1/AN1, 21 RA2/AN2/VREF, 22 RA3/AN3/VREF+, 23 RA4/T0CKI, 24 RA5/AN4/~{SS}/LVDIN, 25 RE0/AN5/~{RD}, 26 RE1/AN6/~{WR}, 27 RE2/AN7/~{CS}, 28 VDD_2, 29 VSS_2, 30 OSC1/CLKI, 31 OSC2/CLKO/RA6, 32 RC0/T1OSO/T1CKI, 33 NC_3, 34 NC_4, 35 RC1/T1OSI/CCP2, 36 RC2/CCP1, 37 RC3/SCK/SCL, 38 RD0/PSP0, 39 RD1/PSP1, 40 RD2/PSP2, 41 RD3/PSP3, 42 RC4/SDI/SDA, 43 RC5/SDO, 44 RC6/TX/CK

## RELAY GEN PURPOSE DPDT 1A 3VDC
designator RE?  (value not drawn)
General Purpose Relay DPDT (2 Form C) Surface Mount; Manufacturer: Panasonic Electric Works; Manufacturer Part Number: TXS2SA-3V; Rating: 3VDC 1A; Coil Resistance: 180 Ohms; Distributor: Digikey; Distributor Part Number: 255-2341-5-ND; Unit Price: $4.65000; Packaging: Tube; Operating Temperature: -40°C ~ 70°C; Type: Signal Relays, Up to 2 Amps; Reference Link: https://www.digikey.com/en/products/detail/panasonic-electric-works/TXS2SA-3V/650160
footprint RELAY_TXS2SA-3V
pins: 1, 3, 4, 5, 8, 9, 10, 12

## Res 0ohm ±1% 0.25W
designator R?, comment 0R
Thick Film Resistors - SMD 0 Ohms 250 mW 1206 1%; Manufacturer Part Number: RC1206FR-070RL; Manufacturer: Yageo; Value: 0R; Supplier: Mouser; Supplier Part Number: 603-RC1206FR-070RL; Price: 0.1
footprint R1206
pins: 1, 2

## Res 1kOhms ±1% 0.1W
designator R?, comment 1k
Thick Film Resistors - SMD 1 kOhms 100mW 0603 1%; Manufacturer: Yageo; Manufacturer Part Number: RC0603FR-071KL; Value: 1k; Supplier: Mouser; Supplier Part Number: 603-RC0603FR-071KL; Price: 0.1
footprint R0603 (Footprint not found)
pins: 1, 2

## Res 1ohm ±1% 0.0625W
designator R?, comment 1R
Thick Film Resistors - SMD 1 Ohms 62.5 mW 0402 1%; Manufacturer Part Number: RC0402FR-7D1RL; Manufacturer: Yageo; Value: 1R; Supplier: Mouser; Supplier Part Number: 603-RC0402FR-7D1RL; Price: 0.1
footprint R0402
pins: 1, 2

## Res 2.2kOhms ±1% 0.1W
designator R?, comment 2.2k
Thick Film Resistors - SMD 2.2 kOhms 100mW 0603 1%; Manufacturer: Yageo; Manufacturer Part Number: RC0603FR-072K2L; Value: 2.2k; Supplier: Mouser; Supplier Part Number: 603-RC0603FR-072K2L; Price: 0.1
footprint R0603 (Footprint not found)
pins: 1, 2

## Res 2.2kOhms ±1% 0.75W
designator R?, comment 2.2k
Thick Film Resistors - SMD 2.2 kOhms 750 mW 2010 1%; Manufacturer: Yageo; Manufacturer Part Number: RC2010FK-072K2L; Value: 2.2k; Supplier: mouser; Supplier Part Number: 603-RC2010FK-072K2L; Price: 0.2
footprint R2010
pins: 1, 2

## Res 2.2ohm ±1% 0.1W
designator R?, comment 2.2R
Thick Film Resistors - SMD 2.2 Ohms 100mW 0603 1%; Manufacturer Part Number: RC0603FR-072R2L; Manufacturer: Yageo; Value: 2.2R; Supplier: Mouser; Supplier Part Number: 603-RC0603FR-072R2L; Price: 0.1
footprint R0603 (Footprint not found)
pins: 1, 2

## Res 2.2ohm ±1% 0.25W
designator R?, comment 2.2R
Thick Film Resistors - SMD 2.2 Ohms 250 mW 1206 1%; Manufacturer Part Number: RC1206FR-072R2L; Manufacturer: Yageo; Value: 2.2R; Supplier: Mouser; Supplier Part Number: 603-RC1206FR-072R2L; Price: 0.12
footprint R1206 (Footprint not found)
pins: 1, 2

## Res 2.2ohms ±1% 0.75W
designator R?, comment 2.2
Thick Film Resistors - SMD 2.2 Ohms 750 mW 2010 1%; Manufacturer: Yageo; Manufacturer Part Number: RC2010FK-072R2L; Value: 2.2; Supplier: mouser; Supplier Part Number: 603-RC2010FK-072R2L; Price: 0.39
footprint R2010
pins: 1, 2

## Res 4.7ohm ±1% 0.1W
designator R?, comment 4.7R
Thick Film Resistors - SMD 4.7 Ohms 100mW 0603 1%; Manufacturer Part Number: RC0603FR-074R7L; Manufacturer: Yageo; Value: 4.7R; Supplier: Mouser; Supplier Part Number: 603-RC0603FR-074R7L; Price: 0.12
footprint R0603 (RESISTOR SMD 0603)
pins: 1, 2

## Res 4.7ohm ±1% 0.25W
designator R?, comment 4.7R
Thick Film Resistors - SMD 4.7 Ohms 250 mW 1206 1%; Manufacturer Part Number: RC1206FR-074R7L; Manufacturer: Yageo; Value: 4.7R; Supplier: Mouser; Supplier Part Number: 603-RC1206FR-074R7L; Price: 0.12
footprint R1206 (Footprint not found)
pins: 1, 2

## Res 10kOhms ±1% 0.1W
designator R?, comment 10k
Thick Film Resistors - SMD 10 kOhms 100mW 0603 1%; Manufacturer: Yageo; Manufacturer Part Number: RC0603FR-0710KL; Value: 10k; Supplier: mouser; Supplier Part Number: 603-RC0603FR-0710KL; Price: 0.1
footprint R0603 (Footprint not found)
pins: 1, 2

## Res 20ohm ±1% 0.5W
designator R?, comment 20R
Thick Film Resistors - SMD 20 Ohms 500 mW 1210 1%; Manufacturer Part Number: RC1210FR-0720RL; Manufacturer: Yageo; Value: 20R; Supplier: Mouser; Supplier Part Number: 603-RC1210FR-0720RL; Price: 0.14
footprint R1210
pins: 1, 2

## Res 20ohm ±1% 0.25W
designator R?, comment 20R
Thick Film Resistors - SMD 20 Ohms 250 mW 1206 1%; Manufacturer Part Number: RC1206FR-0720RL; Manufacturer: Yageo; Value: 20R; Supplier: Mouser; Supplier Part Number: 603-RC1206FR-0720RL; Price: 0.12
footprint R1206 (Footprint not found)
pins: 1, 2

## Res 20ohm ±1% 0.125W
designator R?, comment 20R
Thick Film Resistors - SMD 20 Ohms 125 mW 0805 1%; Manufacturer Part Number: RC0805FR-0720RL; Manufacturer: Yageo; Value: 20R; Supplier: Mouser; Supplier Part Number: 603-RC0805FR-0720RL; Price: 0.1
footprint R0805
pins: 1, 2

## Res 20ohm ±1% 1W
designator R?, comment 20R
Thick Film Resistors - SMD 20 Ohms 1 W 2512 1%; Manufacturer Part Number: RC2512FK-0720RL; Manufacturer: Yageo; Value: 20R; Supplier: Mouser; Supplier Part Number: 603-RC2512FK-0720RL; Price: 0.33
footprint R2512
pins: 1, 2

## Res 22ohm ±1% 0.1W
designator R?, comment 22R
Thick Film Resistors - SMD 22 Ohms 100mW 0603 1%; Manufacturer Part Number: RC0603FR-0722RL; Manufacturer: Yageo; Value: 22R; Supplier: Mouser; Supplier Part Number: 603-RC0603FR-0722RL; Price: 0.1
footprint R0603 (Footprint not found)
pins: 1, 2

## Res 33kOhms ±1% 0.1W
designator R?, comment 33k
Thick Film Resistors - SMD 33 kOhms 100mW 0603 1%; Manufacturer: Yageo; Manufacturer Part Number: RC0603FR-0733KL; Value: 33k; Supplier: mouser; Supplier Part Number: 603-RC0603FR-0733KL; Price: 0.1
footprint R0603 (Footprint not found)
pins: 1, 2